# Altium footprint library Connectors.PcbLib: 27 footprints (part 1 of 2)
Each footprint in its own frame and in the unit in brackets; x right, y up, seen from the top. Pads: shape width x height; smd on the part's side, far side on the other; paste and mask are expansions set on the pad; w line width, h text height; cw(c..) or ccw(c..) is an arc to the next point about the centre after c.
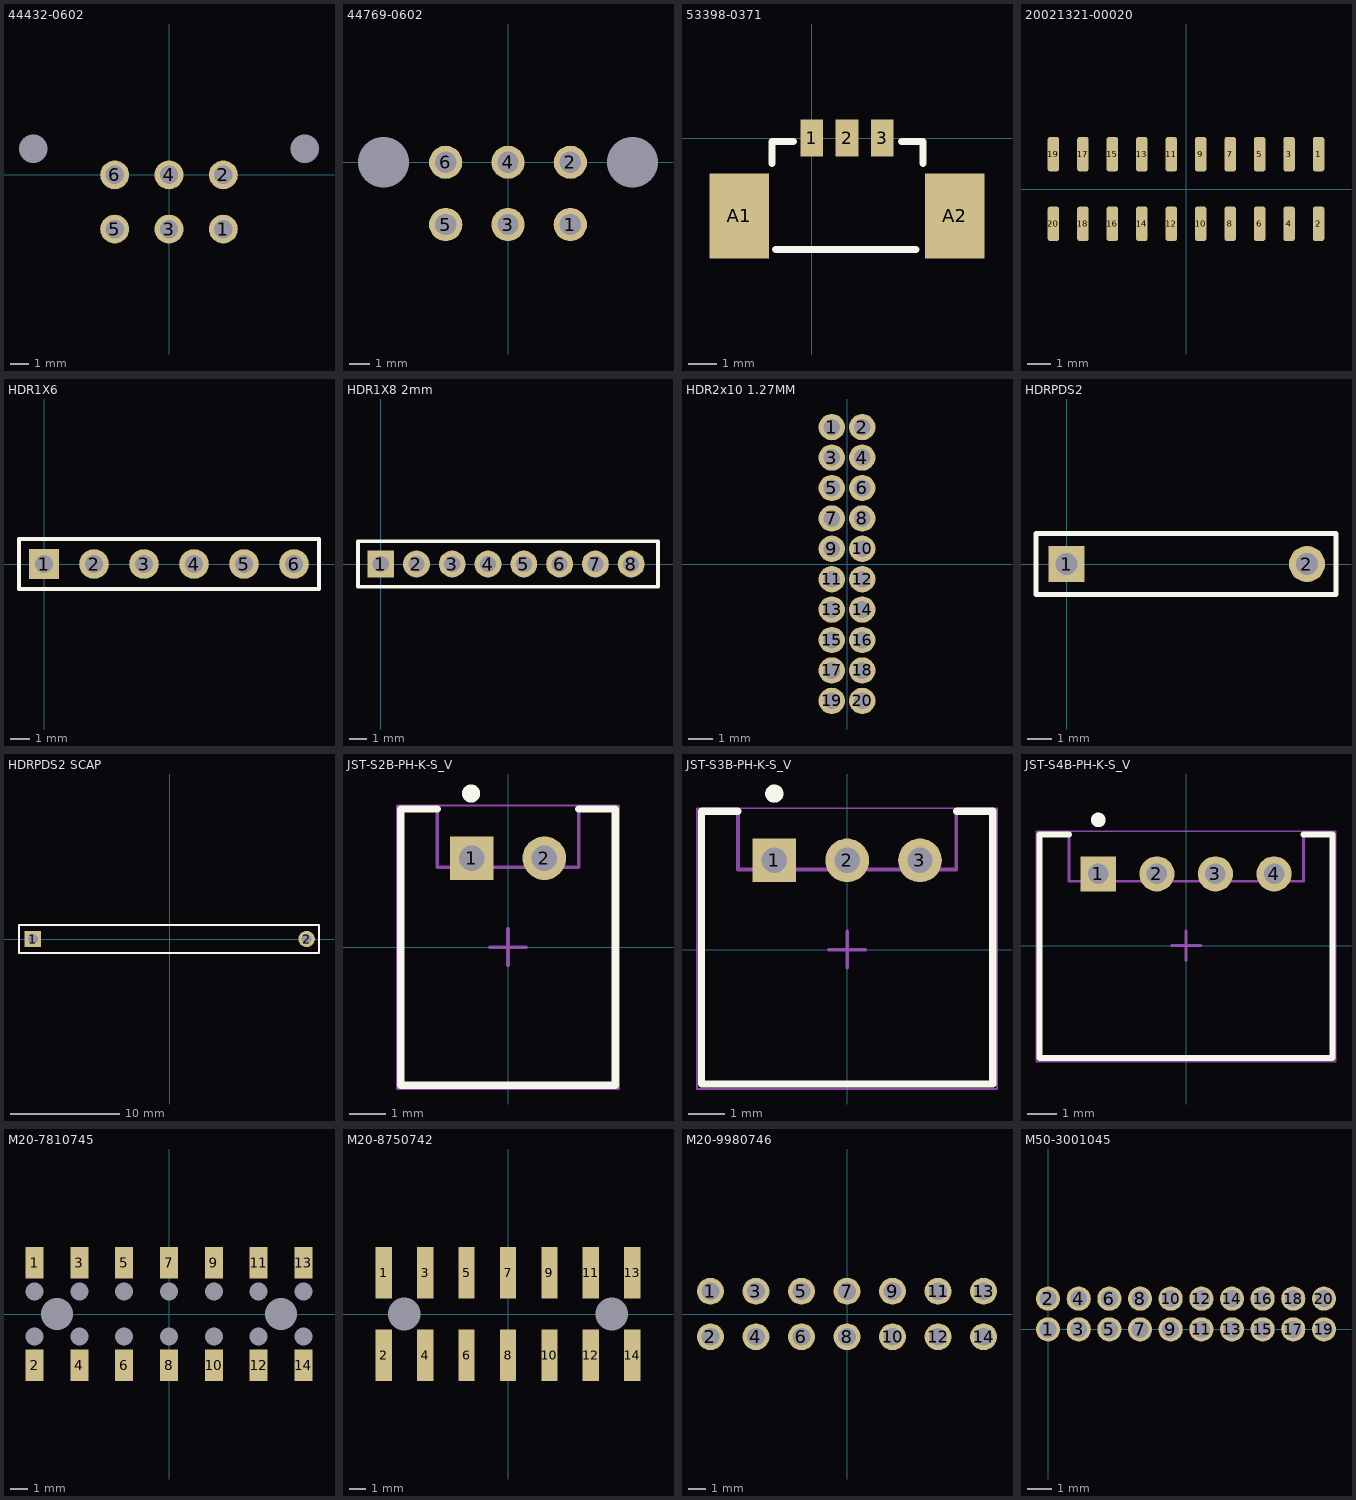
[diagram p0: the footprints below, top view; thin cyan lines are the x and y axes]

## 44432-0602 [mm]
pads (8):
  round 0 hole 1.57: 0(-7.5,1.45) 0(7.5,1.45)
  round 1.6 hole 1.02: 1(3,-3) 2(3,0) 3(0,-3) 4(0,0) 5(-3,-3) 6(-3,0)
3D body: height 11.6, standoff -3.26, extent -8,-7.455 8,4.445

## 44769-0602 [mm]
pads (8):
  round 0 hole 2.45: 0(-6,0) 0(6,0)
  round 1.6 hole 1.02: 1(3,-3) 2(3,0) 3(0,-3) 4(0,0) 5(-3,-3) 6(-3,0)
3D body: height 13.7, standoff -3.3, extent -7.5,-5.2 7.5,3.2

## 53398-0371 [mm]
pads (5):
  rect 0.8x1.3 smd: 1(0,0) 2(1.25,0) 3(2.5,0)
  rect 2.1x3 smd: A1(-2.55,-2.75) A2(5.05,-2.75)
Top Overlay:
  lines w0.254: -1.397,-0.889 -1.397,-0.127 -0.635,-0.127 ; -1.27,-3.937 3.683,-3.937 ; 3.175,-0.127 3.937,-0.127 3.937,-0.889
3D body: height -1.7, standoff -5.1, extent -3.147,-4.611 5.753,0.589

## 20021321-00020 [mm] "1.27mm 20 Way 2 Row Straight PCB Socket Surface Mount"
pads (20):
  rrect50% 0.5x1.5 smd: 1(5.715,1.5) 2(5.715,-1.5) 3(4.445,1.5) 4(4.445,-1.5) 5(3.175,1.5) 6(3.175,-1.5) 7(1.905,1.5) 8(1.905,-1.5) 9(0.635,1.5) 10(0.635,-1.5) 11(-0.635,1.5) 12(-0.635,-1.5) 13(-1.905,1.5) 14(-1.905,-1.5) 15(-3.175,1.5) 16(-3.175,-1.5) 17(-4.445,1.5) 18(-4.445,-1.5) 19(-5.715,1.5) 20(-5.715,-1.5)
3D body: height 4.5, standoff 0, extent -6.58,-2.25 6.58,2.25

## HDR1X6 [mm] "Connector; Header; 6 Position"
pads (6):
  rect 1.5x1.5 hole 0.9: 1(0,0)
  round 1.5 hole 0.9: 2(2.54,0) 3(5.08,0) 4(7.62,0) 5(10.16,0) 6(12.7,0)
Top Overlay:
  lines w0.2: -1.27,-1.27 13.97,-1.27 13.97,1.27 -1.27,1.27 -1.27,-1.27
3D body: height 0.01, standoff -0.01, extent -0.02,-0.019 0,0
3D body: height 0.01, standoff -0.01, extent -0.01,-0.009 0.01,0.01

## HDR1X8 2mm [mm] "Connector; Header; 8 Position"
pads (8):
  rect 1.5x1.5 hole 0.9: 1(0,0)
  round 1.5 hole 0.9: 2(2,0) 3(4,0) 4(6,0) 5(8,0) 6(10,0) 7(12,0) 8(14,0)
Top Overlay:
  lines w0.2: -1.27,-1.27 -1.27,1.27 15.5,1.27 15.5,-1.27 -1.27,-1.27
3D body: height 0.01, standoff -0.01, extent -0.01,-0.009 0.01,0.01
3D body: height 0.01, standoff -0.01, extent -0.02,-0.019 0,0

## HDR2x10 1.27MM [mm] "Header 2x10 1.27mm"
pads (20):
  round 1.1 hole 0.7: 1(-0.635,5.715) 2(0.635,5.715) 3(-0.635,4.445) 4(0.635,4.445) 5(-0.635,3.175) 6(0.635,3.175) 7(-0.635,1.905) 8(0.635,1.905) 9(-0.635,0.635) 10(0.635,0.635) 11(-0.635,-0.635) 12(0.635,-0.635) 13(-0.635,-1.905) 14(0.635,-1.905) 15(-0.635,-3.175) 16(0.635,-3.175) 17(-0.635,-4.445) 18(0.635,-4.445) 19(-0.635,-5.715) 20(0.635,-5.715)
3D body: height 5.5, standoff -2.35, extent -1.724,-6.35 1.676,6.35

## HDRPDS2 [mm] "Connector; Header; 2 Position"
height 11
pads (2):
  rect 1.5x1.5 hole 0.9: 1(0,0)
  round 1.5 hole 0.9: 2(10,0)
Top Overlay:
  lines w0.2: -1.27,-1.27 -1.27,1.27 11.208,1.27 11.208,-1.27 -1.27,-1.27

## HDRPDS2 SCAP [mm] "Connector; Header; 2 Position"
height 11
pads (2):
  rect 1.5x1.5 hole 0.9: 1(-12.5,0)
  round 1.5 hole 0.9: 2(12.5,0)
Top Overlay:
  lines w0.2: -13.77,-1.27 -13.77,1.27 13.631,1.27 13.631,-1.27 -13.77,-1.27

## JST-S2B-PH-K-S_V [mm] "THD, 2-Leads, Body 7.6x5.9mm, Pitch 2mm"
height 4.8
pads (2):
  rect 1.2x1.2 hole 0.7: 1(-1,2.45)
  round 1.2 hole 0.7: 2(1,2.45)
Top Overlay:
  circle w0.25: c-1.016,4.228 r0.125
  lines w0.2: -1.95,3.8 -2.95,3.8 -2.95,-3.8 2.95,-3.8 2.95,3.8 1.95,3.8
3D Top:
  lines w0.1: -1.95,3.8 -2.95,3.8 -2.95,-3.8 2.95,-3.8 2.95,3.8 1.95,3.8 1.95,2.2 -1.95,2.2 -1.95,3.8
Courtyard Top:
  lines w0.05: -3.05,-3.9 -3.05,3.9 3.05,3.9 3.05,-3.9 -3.05,-3.9
  lines w0.1: -0.5,0 0.5,0 ; 0,-0.5 0,0.5
3D body: height 4.8, standoff -3.4, extent -2.95,-3.8 2.95,3.8

## JST-S3B-PH-K-S_V [mm] "THD, 3-Leads, Body 7.6x5.9mm, Pitch 2mm"
height 4.8
pads (3):
  rect 1.2x1.2 hole 0.7: 1(-2,2.45)
  round 1.2 hole 0.7: 2(0,2.45) 3(2,2.45)
Top Overlay:
  circle w0.25: c-2.001,4.283 r0.125
  lines w0.2: -3,3.8 -4,3.8 -4,-3.693 4,-3.693 4,3.8 3,3.8
3D Top:
  lines w0.1: -4,-3.682 -4,3.8 -3,3.8 -3,2.2 3,2.2 3,3.8 4,3.8 4,-3.682 -4,-3.682
Courtyard Top:
  lines w0.05: -4.124,-3.826 4.115,-3.826 4.115,3.883 -4.124,3.883 -4.124,-3.826
  lines w0.1: -0.5,0 0.5,0 ; 0,-0.5 0,0.5
3D body: height 4.8, standoff -3.4, extent -3.97,-3.706 3.93,3.894

## JST-S4B-PH-K-S_V [mm] "THD, 4-Leads, Body 7.6x5.9mm, Pitch 2mm"
height 4.8
pads (4):
  rect 1.2x1.2 hole 0.7: 1(-3,2.45)
  round 1.2 hole 0.7: 2(-1,2.45) 3(1,2.45) 4(3,2.45)
Top Overlay:
  circle w0.25: c-3,4.294 r0.125
  lines w0.2: -4,3.8 -5,3.8 -5,-3.83 5,-3.83 5,3.8 4,3.8
3D Top:
  lines w0.1: -5,-3.841 -5,3.8 -4,3.8 -4,2.2 4,2.2 4,3.8 5,3.8 5,-3.841 -5,-3.841
Courtyard Top:
  lines w0.05: -5.124,-3.961 5.114,-3.961 5.114,3.9 -5.124,3.9 -5.124,-3.961
  lines w0.1: -0.5,0 0.5,0 ; 0,-0.5 0,0.5
3D body: height 4.8, standoff -3.4, extent -4.983,-3.789 4.917,3.811

## M20-7810745 [mm] "M20 (2.54mm Pitch) DIL Vertical Socket SMT"
pads (30):
  rect 0x0 hole 1.02: 0(-7.62,-1.27) 0(-7.62,1.27) 0(-5.08,-1.27) 0(-5.08,1.27) 0(-2.54,-1.27) 0(-2.54,1.27) 0(0,-1.27) 0(0,1.27) 0(2.54,-1.27) 0(2.54,1.27) 0(5.08,-1.27) 0(5.08,1.27) 0(7.62,-1.27) 0(7.62,1.27)
  rect 0x0 hole 1.8: 0(-6.35,0) 0(6.35,0)
  rect 1.02x1.78 smd: 1(-7.62,2.91) 2(-7.62,-2.91) 3(-5.08,2.91) 4(-5.08,-2.91) 5(-2.54,2.91) 6(-2.54,-2.91) 7(0,2.91) 8(0,-2.91) 9(2.54,2.91) 10(2.54,-2.91) 11(5.08,2.91) 12(5.08,-2.91) 13(7.62,2.91) 14(7.62,-2.91)
3D body: height 3.55, standoff -1.4, extent -8.89,-3.6 8.89,3.6

## M20-8750742 [mm] "CONN HDR .100\" SMD 14POS"
pads (16):
  rect 0x0 hole 2: 0(-6.35,0) 0(6.35,0)
  rect 1x3.15 smd: 1(-7.62,2.54) 2(-7.62,-2.54) 3(-5.08,2.54) 4(-5.08,-2.54) 5(-2.54,2.54) 6(-2.54,-2.54) 7(0,2.54) 8(0,-2.54) 9(2.54,2.54) 10(2.54,-2.54) 11(5.08,2.54) 12(5.08,-2.54) 13(7.62,2.54) 14(7.62,-2.54)
3D body: height 9.93, standoff -0.51, extent -8.89,-3.556 8.89,3.644

## M20-9980746 [mm] "M20 (2.54mm Pitch) DIL Vertical Pin Header"
pads (14):
  round 1.5 hole 1: 1(-7.62,1.27) 2(-7.62,-1.27) 3(-5.08,1.27) 4(-5.08,-1.27) 5(-2.54,1.27) 6(-2.54,-1.27) 7(0,1.27) 8(0,-1.27) 9(2.54,1.27) 10(2.54,-1.27) 11(5.08,1.27) 12(5.08,-1.27) 13(7.62,1.27) 14(7.62,-1.27)
3D body: height 8.64, standoff -3.04, extent -8.89,-2.54 8.89,2.54

## M50-3001045 [mm] "CONN RCPT 1.27MM T/H AU 20POS"
pads (20):
  round 1 hole 0.7: 1(0,0) 2(0,1.27) 3(1.27,0) 4(1.27,1.27) 5(2.54,0) 6(2.54,1.27) 7(3.81,0) 8(3.81,1.27) 9(5.08,0) 10(5.08,1.27) 11(6.35,0) 12(6.35,1.27) 13(7.62,0) 14(7.62,1.27) 15(8.89,0) 16(8.89,1.27) 17(10.16,0) 18(10.16,1.27) 19(11.43,0) 20(11.43,1.27)